# Altium footprint library WPME-FISM.PcbLib: 31 footprints (part 1 of 2)
Each footprint in its own frame and in the unit in brackets; x right, y up, seen from the top. Pads: shape width x height; smd on the part's side, far side on the other; paste and mask are expansions set on the pad; w line width, h text height; cw(c..) or ccw(c..) is an arc to the next point about the centre after c.
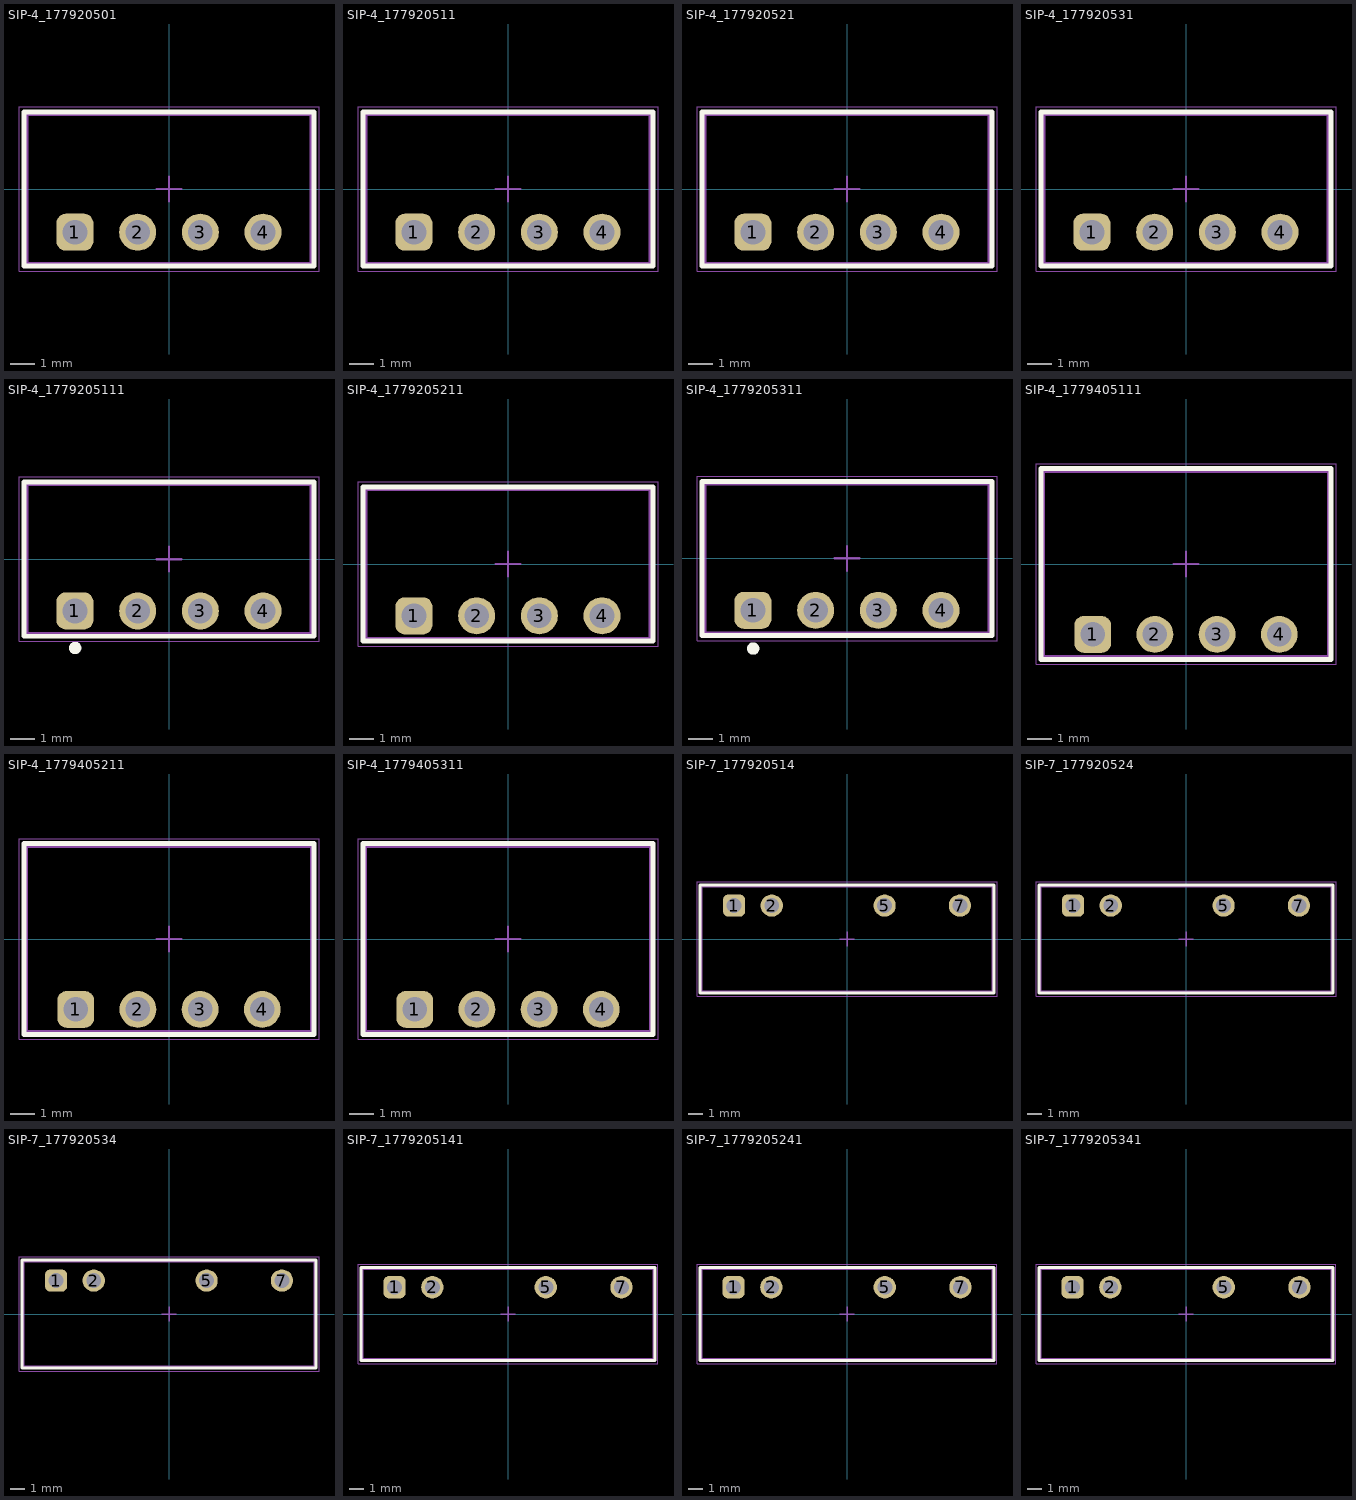
[diagram p0: the footprints below, top view; thin cyan lines are the x and y axes]

## SIP-4_177920501 [mm] "Fixed Isolated Module, SIP-4, body 11.50 x 6.00 mm"
height 10
pads (4):
  rrect50% 1.5x1.5 hole 1: 1(-3.81,-1.75)
  round 1.5 hole 1: 2(-1.27,-1.75) 3(1.27,-1.75) 4(3.81,-1.75)
Top Overlay:
  lines w0.2: -5.875,-3.125 -5.875,3.125 5.875,3.125 5.875,-3.125 -5.875,-3.125
Top Assembly:
  lines w0.1: -5.875,-3.125 -5.875,3.125 5.875,3.125 5.875,-3.125 -5.875,-3.125
Top Designator:
  text ".Designator" at -3.647,-0.357 h1
Top 3D Body:
  lines w0.1: -5.75,-3 5.75,-3 5.75,3 -5.75,3 -5.75,-3
Top Courtyard:
  lines w0.05: -6.075,-3.325 -6.075,3.325 6.075,3.325 6.075,-3.325 -6.075,-3.325
Top Component Center:
  lines w0.1: -0.5,0 0.5,0 ; 0,-0.5 0,0.5
3D body "177920501.stp": height 10.05, standoff -4.05, extent -5.75,-3 5.75,3

## SIP-4_177920511 [mm] "Fixed Isolated Module, SIP-4, body 11.50 x 6.00 mm"
height 10
pads (4):
  rrect50% 1.5x1.5 hole 1: 1(-3.81,-1.75)
  round 1.5 hole 1: 2(-1.27,-1.75) 3(1.27,-1.75) 4(3.81,-1.75)
Top Overlay:
  lines w0.2: -5.875,-3.125 5.875,-3.125 5.875,3.125 -5.875,3.125 -5.875,-3.125
Top Assembly:
  lines w0.1: -5.875,-3.125 5.875,-3.125 5.875,3.125 -5.875,3.125 -5.875,-3.125
Top Designator:
  text ".Designator" at -3.647,-0.357 h1
Top 3D Body:
  lines w0.1: -5.75,-3 -5.75,3 5.75,3 5.75,-3 -5.75,-3
Top Courtyard:
  lines w0.05: -6.075,-3.325 6.075,-3.325 6.075,3.325 -6.075,3.325 -6.075,-3.325
Top Component Center:
  lines w0.1: -0.5,0 0.5,0 ; 0,-0.5 0,0.5
3D body "177920511.stp": height 10.05, standoff -4.05, extent -5.75,-3 5.75,3

## SIP-4_177920521 [mm] "Fixed Isolated Module, SIP-4, body 11.50 x 6.00 mm"
height 10
pads (4):
  rrect50% 1.5x1.5 hole 1: 1(-3.81,-1.75)
  round 1.5 hole 1: 2(-1.27,-1.75) 3(1.27,-1.75) 4(3.81,-1.75)
Top Overlay:
  lines w0.2: -5.875,-3.125 5.875,-3.125 5.875,3.125 -5.875,3.125 -5.875,-3.125
Top Assembly:
  lines w0.1: -5.875,-3.125 5.875,-3.125 5.875,3.125 -5.875,3.125 -5.875,-3.125
Top Designator:
  text ".Designator" at -3.647,-0.357 h1
Top 3D Body:
  lines w0.1: -5.75,-3 -5.75,3 5.75,3 5.75,-3 -5.75,-3
Top Courtyard:
  lines w0.05: -6.075,-3.325 6.075,-3.325 6.075,3.325 -6.075,3.325 -6.075,-3.325
Top Component Center:
  lines w0.1: -0.5,0 0.5,0 ; 0,-0.5 0,0.5
3D body "177920521.stp": height 10.05, standoff -4.05, extent -5.75,-3 5.75,3

## SIP-4_177920531 [mm] "Fixed Isolated Module, SIP-4, body 11.50 x 6.00 mm"
height 10
pads (4):
  rrect50% 1.5x1.5 hole 1: 1(-3.81,-1.75)
  round 1.5 hole 1: 2(-1.27,-1.75) 3(1.27,-1.75) 4(3.81,-1.75)
Top Overlay:
  lines w0.2: -5.875,-3.125 -5.875,3.125 5.875,3.125 5.875,-3.125 -5.875,-3.125
Top Assembly:
  lines w0.1: -5.875,-3.125 -5.875,3.125 5.875,3.125 5.875,-3.125 -5.875,-3.125
Top Designator:
  text ".Designator" at -3.647,-0.357 h1
Top 3D Body:
  lines w0.1: -5.75,-3 5.75,-3 5.75,3 -5.75,3 -5.75,-3
Top Courtyard:
  lines w0.05: -6.075,-3.325 -6.075,3.325 6.075,3.325 6.075,-3.325 -6.075,-3.325
Top Component Center:
  lines w0.1: -0.5,0 0.5,0 ; 0,-0.5 0,0.5
3D body "177920531.stp": height 10.05, standoff -4.05, extent -5.75,-3 5.75,3

## SIP-4_1779205111 [mm] "Fixed Isolated Module, SIP-4, body 11.50 x 6.00 mm"
height 10
pads (4):
  rrect50% 1.5x1.5 hole 1: 1(-3.81,-2.1)
  round 1.5 hole 1: 2(-1.27,-2.1) 3(1.27,-2.1) 4(3.81,-2.1)
Top Overlay:
  circle w0.25: c-3.8,-3.6 r0.125
  lines w0.2: -5.875,-3.125 5.875,-3.125 5.875,3.125 -5.875,3.125 -5.875,-3.125
Top Assembly:
  lines w0.1: -5.875,-3.125 -5.875,3.125 5.875,3.125 5.875,-3.125 -5.875,-3.125
Top Designator:
  text ".Designator" at -3.647,-0.357 h1
Top 3D Body:
  lines w0.1: -5.75,-3 5.75,-3 5.75,3 -5.75,3 -5.75,-3
Top Courtyard:
  lines w0.05: -6.075,-3.325 6.075,-3.325 6.075,3.325 -6.075,3.325 -6.075,-3.325
Top Component Center:
  lines w0.1: -0.5,0 0.5,0 ; 0,-0.5 0,0.5
3D body "1779205111.stp": height 10.05, standoff -3.95, extent -5.75,-3 5.75,3

## SIP-4_1779205211 [mm] "Fixed Isolated Module, SIP-4, body 11.50 x 6.00 mm"
height 10
pads (4):
  rrect50% 1.5x1.5 hole 1: 1(-3.81,-2.1)
  round 1.5 hole 1: 2(-1.27,-2.1) 3(1.27,-2.1) 4(3.81,-2.1)
Top Overlay:
  lines w0.2: -5.875,-3.125 -5.875,3.125 5.875,3.125 5.875,-3.125 -5.875,-3.125
Top Assembly:
  lines w0.1: -5.875,-3.125 -5.875,3.125 5.875,3.125 5.875,-3.125 -5.875,-3.125
Top Designator:
  text ".Designator" at -3.647,-0.357 h1
Top 3D Body:
  lines w0.1: -5.75,-3 -5.75,3 5.75,3 5.75,-3 -5.75,-3
Top Courtyard:
  lines w0.05: -6.075,-3.325 -6.075,3.325 6.075,3.325 6.075,-3.325 -6.075,-3.325
Top Component Center:
  lines w0.1: -0.5,0 0.5,0 ; 0,-0.5 0,0.5
3D body "1779205211.stp": height 10.05, standoff -3.95, extent -5.75,-3 5.75,3

## SIP-4_1779205311 [mm] "Fixed Isolated Module, SIP-4, body 11.60 x 6.00mm"
height 10.16
pads (4):
  rrect50% 1.5x1.5 hole 1: 1(-3.81,-2.1)
  round 1.5 hole 1: 2(-1.27,-2.1) 3(1.27,-2.1) 4(3.81,-2.1)
Top Overlay:
  circle w0.25: c-3.8,-3.65 r0.125
  lines w0.2: -5.875,-3.125 -5.875,3.125 5.875,3.125 5.875,-3.125 -5.875,-3.125
Top Assembly:
  lines w0.1: -5.875,-3.125 5.875,-3.125 5.875,3.125 -5.875,3.125 -5.875,-3.125
Top Designator:
  text ".Designator" at -3.647,-0.357 h1
Top 3D Body:
  lines w0.1: -5.75,-3 -5.75,3 5.75,3 5.75,-3 -5.75,-3
Top Courtyard:
  lines w0.05: -6.075,-3.325 6.075,-3.325 6.075,3.325 -6.075,3.325 -6.075,-3.325
Top Component Center:
  lines w0.1: -0.5,0 0.5,0 ; 0,-0.5 0,0.5
3D body "1779205311.stp": height 10.05, standoff -3.95, extent -5.75,-3 5.75,3

## SIP-4_1779405111 [mm] "Power Module, SIP-4, body 11.60 x 7.55 mm"
height 10.16
pads (4):
  rrect50% 1.5x1.5 hole 1 paste-0.1: 1(-3.81,-2.875)
  round 1.5 hole 1 paste-0.1: 2(-1.27,-2.875) 3(1.27,-2.875) 4(3.81,-2.875)
Top Overlay:
  lines w0.2: -5.925,-3.9 5.925,-3.9 5.925,3.9 -5.925,3.9 -5.925,-3.9
Top Assembly:
  lines w0.1: -5.925,-3.9 5.925,-3.9 5.925,3.9 -5.925,3.9 -5.925,-3.9
Top Designator:
  text ".Designator" at -3.647,-0.357 h1
Top 3D Body:
  lines w0.1: -5.8,-3.775 5.8,-3.775 5.8,3.775 -5.8,3.775 -5.8,-3.775
Top Courtyard:
  lines w0.05: -6.125,-4.1 6.125,-4.1 6.125,4.1 -6.125,4.1 -6.125,-4.1
Top Component Center:
  lines w0.1: -0.5,0 0.5,0 ; 0,-0.5 0,0.5
3D body "Download_STP_1779405211 (rev1).stp": height 10.18, standoff -4.08, extent -5.8,-3.775 5.8,3.775

## SIP-4_1779405211 [mm] "Power Module, SIP-4, body 11.60 x 7.55 mm"
height 10.16
pads (4):
  rrect50% 1.5x1.5 hole 1 paste-0.1: 1(-3.81,-2.875)
  round 1.5 hole 1 paste-0.1: 2(-1.27,-2.875) 3(1.27,-2.875) 4(3.81,-2.875)
Top Overlay:
  lines w0.2: -5.925,-3.9 5.925,-3.9 5.925,3.9 -5.925,3.9 -5.925,-3.9
Top Assembly:
  lines w0.1: -5.925,-3.9 5.925,-3.9 5.925,3.9 -5.925,3.9 -5.925,-3.9
Top Designator:
  text ".Designator" at -3.647,-0.357 h1
Top 3D Body:
  lines w0.1: -5.8,-3.775 5.8,-3.775 5.8,3.775 -5.8,3.775 -5.8,-3.775
Top Courtyard:
  lines w0.05: -6.125,-4.1 6.125,-4.1 6.125,4.1 -6.125,4.1 -6.125,-4.1
Top Component Center:
  lines w0.1: -0.5,0 0.5,0 ; 0,-0.5 0,0.5
3D body "Download_STP_1779405211 (rev1).stp": height 10.18, standoff -4.08, extent -5.8,-3.775 5.8,3.775

## SIP-4_1779405311 [mm] "Power Module, SIP-4, body 11.60 x 7.55 mm"
height 10.16
pads (4):
  rrect50% 1.5x1.5 hole 1 paste-0.1: 1(-3.81,-2.875)
  round 1.5 hole 1 paste-0.1: 2(-1.27,-2.875) 3(1.27,-2.875) 4(3.81,-2.875)
Top Overlay:
  lines w0.2: -5.925,-3.9 -5.925,3.9 5.925,3.9 5.925,-3.9 -5.925,-3.9
Top Assembly:
  lines w0.1: -5.925,-3.9 -5.925,3.9 5.925,3.9 5.925,-3.9 -5.925,-3.9
Top Designator:
  text ".Designator" at -3.647,-0.357 h1
Top 3D Body:
  lines w0.1: -5.8,-3.775 -5.8,3.775 5.8,3.775 5.8,-3.775 -5.8,-3.775
Top Courtyard:
  lines w0.05: -6.125,-4.1 -6.125,4.1 6.125,4.1 6.125,-4.1 -6.125,-4.1
Top Component Center:
  lines w0.1: -0.5,0 0.5,0 ; 0,-0.5 0,0.5
3D body "Download_STP_1779405211 (rev1).stp": height 10.18, standoff -4.08, extent -5.8,-3.775 5.8,3.775

## SIP-7_177920514 [mm] "Fixed Isolated Module, SIP-7, body 19.60 x 7.05 mm"
height 10.2
pads (4):
  rrect50% 1.5x1.5 hole 1: 1(-7.62,2.255)
  round 1.5 hole 1: 2(-5.08,2.255) 5(2.54,2.255) 7(7.62,2.255)
Top Overlay:
  lines w0.2: -9.925,-3.65 -9.925,3.65 9.925,3.65 9.925,-3.65 -9.925,-3.65
Top Assembly:
  lines w0.1: -9.925,-3.65 -9.925,3.65 9.925,3.65 9.925,-3.65 -9.925,-3.65
Top Designator:
  text ".Designator" at -3.647,-0.357 h1
Top 3D Body:
  lines w0.1: -9.8,-3.525 -9.8,3.525 9.8,3.525 9.8,-3.525 -9.8,-3.525
Top Courtyard:
  lines w0.05: -10.125,-3.85 -10.125,3.85 10.125,3.85 10.125,-3.85 -10.125,-3.85
Top Component Center:
  lines w0.1: -0.5,0 0.5,0 ; 0,-0.5 0,0.5
3D body "177920514.stp": height 10.25, standoff -4.05, extent -9.8,-3.525 9.8,3.525

## SIP-7_177920524 [mm] "Fixed Isolated Module, SIP-7, body 19.60 x 7.05 mm"
height 10.2
pads (4):
  rrect50% 1.5x1.5 hole 1: 1(-7.62,2.255)
  round 1.5 hole 1: 2(-5.08,2.255) 5(2.54,2.255) 7(7.62,2.255)
Top Overlay:
  lines w0.2: -9.925,-3.65 9.925,-3.65 9.925,3.65 -9.925,3.65 -9.925,-3.65
Top Assembly:
  lines w0.1: -9.925,-3.65 9.925,-3.65 9.925,3.65 -9.925,3.65 -9.925,-3.65
Top Designator:
  text ".Designator" at -3.647,-0.357 h1
Top 3D Body:
  lines w0.1: -9.8,-3.525 9.8,-3.525 9.8,3.525 -9.8,3.525 -9.8,-3.525
Top Courtyard:
  lines w0.05: -10.125,-3.85 10.125,-3.85 10.125,3.85 -10.125,3.85 -10.125,-3.85
Top Component Center:
  lines w0.1: -0.5,0 0.5,0 ; 0,-0.5 0,0.5
3D body "177920524.stp": height 10.25, standoff -4.05, extent -9.8,-3.525 9.8,3.525

## SIP-7_177920534 [mm] "Fixed Isolated Module, SIP-7, body 19.60 x 7.05 mm"
height 10.2
pads (4):
  rrect50% 1.5x1.5 hole 1: 1(-7.62,2.255)
  round 1.5 hole 1: 2(-5.08,2.255) 5(2.54,2.255) 7(7.62,2.255)
Top Overlay:
  lines w0.2: -9.925,-3.65 -9.925,3.65 9.925,3.65 9.925,-3.65 -9.925,-3.65
Top Assembly:
  lines w0.1: -9.925,-3.65 -9.925,3.65 9.925,3.65 9.925,-3.65 -9.925,-3.65
Top Designator:
  text ".Designator" at -3.647,-0.357 h1
Top 3D Body:
  lines w0.1: -9.8,-3.525 -9.8,3.525 9.8,3.525 9.8,-3.525 -9.8,-3.525
Top Courtyard:
  lines w0.05: -10.125,-3.85 -10.125,3.85 10.125,3.85 10.125,-3.85 -10.125,-3.85
Top Component Center:
  lines w0.1: -0.5,0 0.5,0 ; 0,-0.5 0,0.5
3D body "177920534.stp": height 10.25, standoff -4.05, extent -9.8,-3.525 9.8,3.525

## SIP-7_1779205141 [mm] "Fixed Isolated Module, SIP-7, body 19.65 x 6.00 mm"
height 10.16
pads (4):
  rrect50% 1.5x1.5 hole 1: 1(-7.62,1.8)
  round 1.5 hole 1: 2(-5.08,1.8) 5(2.54,1.8) 7(7.62,1.8)
Top Overlay:
  lines w0.2: -9.875,-3.125 9.875,-3.125 9.875,3.125 -9.875,3.125 -9.875,-3.125
Top Assembly:
  lines w0.1: -9.875,-3.125 9.875,-3.125 9.875,3.125 -9.875,3.125 -9.875,-3.125
Top Designator:
  text ".Designator" at -3.647,-0.357 h1
Top 3D Body:
  lines w0.1: -9.75,-3 9.75,-3 9.75,3 -9.75,3 -9.75,-3
Top Courtyard:
  lines w0.05: -10.075,-3.325 10.075,-3.325 10.075,3.325 -10.075,3.325 -10.075,-3.325
Top Component Center:
  lines w0.1: -0.5,0 0.5,0 ; 0,-0.5 0,0.5
3D body "1779205141.stp": height 10.05, standoff -3.95, extent -9.75,-3 9.75,3

## SIP-7_1779205241 [mm] "Fixed Isolated Module, SIP-7, body 19.65 x 6.00 mm"
height 10.16
pads (4):
  rrect50% 1.5x1.5 hole 1: 1(-7.62,1.8)
  round 1.5 hole 1: 2(-5.08,1.8) 5(2.54,1.8) 7(7.62,1.8)
Top Overlay:
  lines w0.2: -9.875,-3.125 -9.875,3.125 9.875,3.125 9.875,-3.125 -9.875,-3.125
Top Assembly:
  lines w0.1: -9.875,-3.125 -9.875,3.125 9.875,3.125 9.875,-3.125 -9.875,-3.125
Top Designator:
  text ".Designator" at -3.647,-0.357 h1
Top 3D Body:
  lines w0.1: -9.75,-3 -9.75,3 9.75,3 9.75,-3 -9.75,-3
Top Courtyard:
  lines w0.05: -10.075,-3.325 -10.075,3.325 10.075,3.325 10.075,-3.325 -10.075,-3.325
Top Component Center:
  lines w0.1: -0.5,0 0.5,0 ; 0,-0.5 0,0.5
3D body "1779205241.stp": height 10.05, standoff -3.95, extent -9.75,-3 9.75,3

## SIP-7_1779205341 [mm] "Fixed Isolated Module, SIP-7, body 19.65 x 6.00 mm"
height 10.16
pads (4):
  rrect50% 1.5x1.5 hole 1: 1(-7.62,1.8)
  round 1.5 hole 1: 2(-5.08,1.8) 5(2.54,1.8) 7(7.62,1.8)
Top Overlay:
  lines w0.2: -9.875,-3.125 9.875,-3.125 9.875,3.125 -9.875,3.125 -9.875,-3.125
Top Assembly:
  lines w0.1: -9.875,-3.125 9.875,-3.125 9.875,3.125 -9.875,3.125 -9.875,-3.125
Top Designator:
  text ".Designator" at -3.647,-0.357 h1
Top 3D Body:
  lines w0.1: -9.75,-3 9.75,-3 9.75,3 -9.75,3 -9.75,-3
Top Courtyard:
  lines w0.05: -10.075,-3.325 10.075,-3.325 10.075,3.325 -10.075,3.325 -10.075,-3.325
Top Component Center:
  lines w0.1: -0.5,0 0.5,0 ; 0,-0.5 0,0.5
3D body "1779205341.stp": height 10.05, standoff -3.95, extent -9.75,-3 9.75,3